# EAGLE library part ILI9481_LCD (library microbuilder)
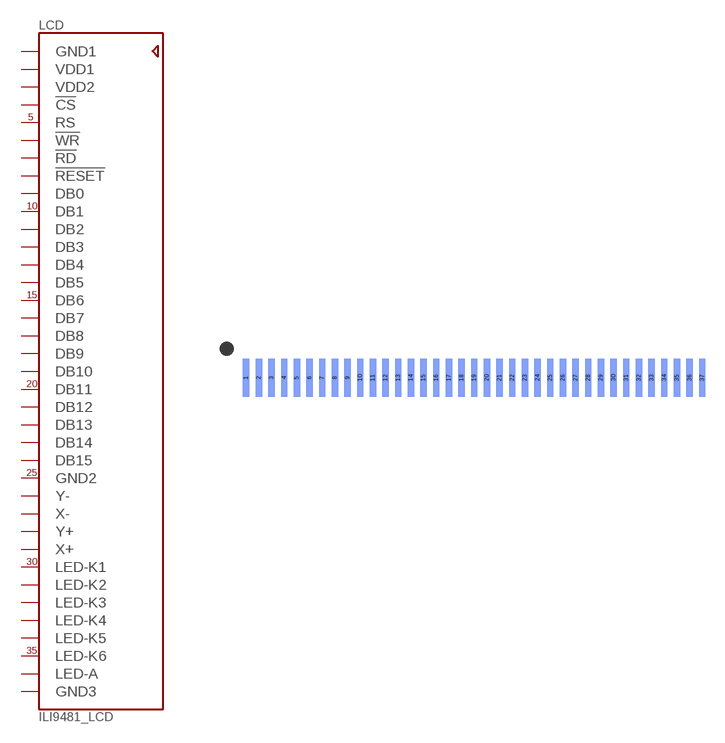
[diagram p96: symbol with the pads of ILI9481_35INCH_OUTLINE; footprint ILI9481_35INCH_OUTLINE]

Designator prefix LCD

## ILI9481_LCD  [ILI9481_35INCH_OUTLINE]
1  GND1  pas
2  VDD1  pas
3  VDD2  pas
4  !CS  pas
5  RS  pwr
6  !WR  pwr
7  !RD  pas
8  !RESET  pas
9  DB0  pas
10  DB1  pas
11  DB2  pas
12  DB3  pas
13  DB4  pas
14  DB5  pas
15  DB6  pas
16  DB7  pas
17  DB8  pas
18  DB9  pas
19  DB10  pas
20  DB11  pas
21  DB12  pas
22  DB13  pas
23  DB14  pas
24  DB15  pas
25  GND2  pas
26  Y-  pas
27  X-  pas
28  Y+  pas
29  X+  pas
30  LED-K1  pas
31  LED-K2  pas
32  LED-K3  pwr
33  LED-K4  pwr
34  LED-K5  pwr
35  LED-K6  pas
36  LED-A  pas
37  GND3  pas

## Footprint ILI9481_35INCH_OUTLINE (pad centres in mm)
smd 0.5 x 3 bottom: 1 -18,48.57; 2 -17,48.57; 3 -16,48.57; 4 -15,48.57; 5 -14,48.57; 6 -13,48.57; 7 -12,48.57; 8 -11,48.57; 9 -10,48.57; 10 -9,48.57; 11 -8,48.57; 12 -7,48.57; 13 -6,48.57; 14 -5,48.57; 15 -4,48.57; 16 -3,48.57; 17 -2,48.57; 18 -1,48.57; 19 0,48.57; 20 1,48.57; 21 2,48.57; 22 3,48.57; 23 4,48.57; 24 5,48.57; 25 6,48.57; 26 7,48.57; 27 8,48.57; 28 9,48.57; 29 10,48.57; 30 11,48.57; 31 12,48.57; 32 13,48.57; 33 14,48.57; 34 15,48.57; 35 16,48.57; 36 17,48.57; 37 18,48.57